# EAGLE library part TPS62051 (library gw10)
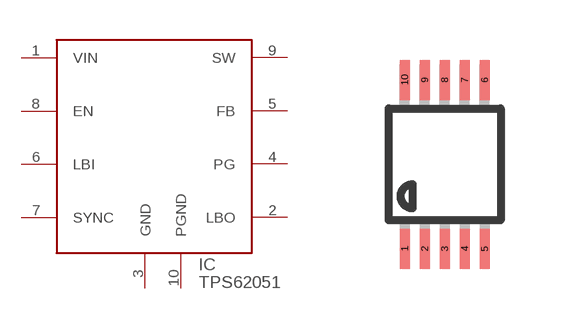
[diagram p4: symbol with the pads of MSOP10; footprint MSOP10]

Designator prefix IC

## TPS62051  [MSOP10]
1  VIN  pwr
2  LBO  oc
3  GND  pwr
4  PG  oc
5  FB  in
6  LBI  in
7  SYNC  in
8  EN  in
9  SW  out
10  PGND  pwr

## Footprint MSOP10 (pad centres in mm)
10-Lead Mini Small Outline Package [MSOP] (RM-10) Source: http://www.analog.com/UploadedFiles/Data_Sheets/35641221898805SSM2167_b.pdf COMPLIANT TO JEDEC STANDARDS MO-187BA
smd 0.25 x 1: 1 -1,-2.113; 2 -0.5,-2.113; 3 0,-2.113; 4 0.5,-2.113; 5 1,-2.113; 6 1,2.113; 7 0.5,2.113; 8 0,2.113; 9 -0.5,2.113; 10 -1,2.113